# Altium schematic symbol library TVS Diode.SchLib: 5 symbols
Pins are listed as number, name and electrical type; pins without a type are passive.

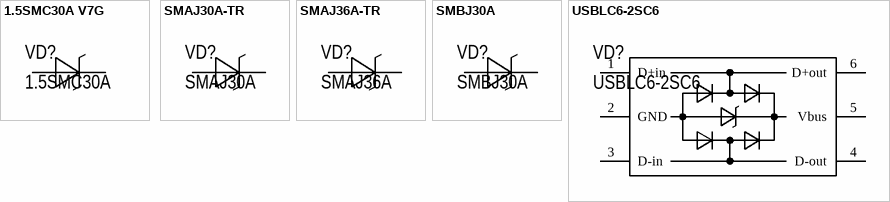
[diagram p0: symbols 1.5SMC30A V7G to USBLC6-2SC6]

## 1.5SMC30A V7G
designator VD?, comment 1.5SMC30A
TVS Diode 41.4V Clamp 38A Ipp Surface Mount DO-214AB (SMC); Manufacture: Taiwan Semiconductor Corporation; Model: 1.5SMC30A V7G; Name: Супрессор; Case: DO-214AB (SMC); HelpURL: https://www.digikey.com/en/products/detail/taiwan-semiconductor-corporation/1-5SMC30A-V7G/8017426?s=N4IgTCBcDaIIwDoCsBlAsgYQMwAYCCABAGoDsA4iALoC%2BQA; Value: 1.5SMC30A
footprint DO-214AB (SMC)
pins: 1 A, 2 C

## SMAJ30A-TR
designator VD?, comment SMAJ30A
TVS Diode 64.3V Clamp 36A (8/20µs) Ipp Surface Mount SMA (DO-214AC); Manufacture: STMicroelectronics; Model: SMAJ30A-TR; Name: Супрессор; Case: DO-214AC (SMA); HelpURL: https://www.digikey.com/en/products/detail/stmicroelectronics/SMAJ30A-TR/1039115; Value: SMAJ30A
footprint DO-214AC, SMA
pins: 1 A, 2 C

## SMAJ36A-TR
designator VD?, comment SMAJ36A
TVS Diode 58.1V Clamp 6.9A Ipp Surface Mount SMA (DO-214AC); Manufacture: SMC Diode Solutions; Model: SMAJ36A-TR; Name: Супрессор; Case: DO-214AC (SMA); HelpURL: https://www.digikey.com/en/products/detail/smc-diode-solutions/SMAJ36A/5993558; Value: SMAJ36A
footprint DO-214AC, SMA
pins: 1 A, 2 C

## SMBJ30A
designator VD?
TVS Diode 48.4V Clamp 12.4A Ipp Tvs Diode Surface Mount DO-214AA (SMB); Manufacture: Littelfuse Inc.; Name: Супрессор; Case: DO-214AA (SMBJ); HelpURL: https://www.digikey.com/en/products/detail/littelfuse-inc/SMBJ30A/286004; Value: SMBJ30A; Model: SMBJ30A
footprint DO-214AA, SMB
pins: 1 A, 2 C

## USBLC6-2SC6
designator VD?
TVS Diode 17V Clamp 5A (8/20µs) Ipp Surface Mount SOT-23-6; Manufacture: STMicroelectronics; Name: Защита интерфейса USB; Case: SOT23-6; HelpURL: https://www.digikey.com/en/products/detail/stmicroelectronics/USBLC6-2SC6/1040559; Value: USBLC6-2SC6; Model: USBLC6-2SC6
footprint SOT-23-6L
footprint SOT-666
pins: 1 D+in, 2 GND, 3 D-in, 4 D-out, 5 Vbus, 6 D+out